# EAGLE library part ROTARY_SWITCH_6P (library 000_nl2)
6 Pole Rotary Switch This is a part for a 6 pole rotary switch described here <http://www.farnell.com/datasheets/1683351.pdf> and there is a variant for mounting behind the PCB
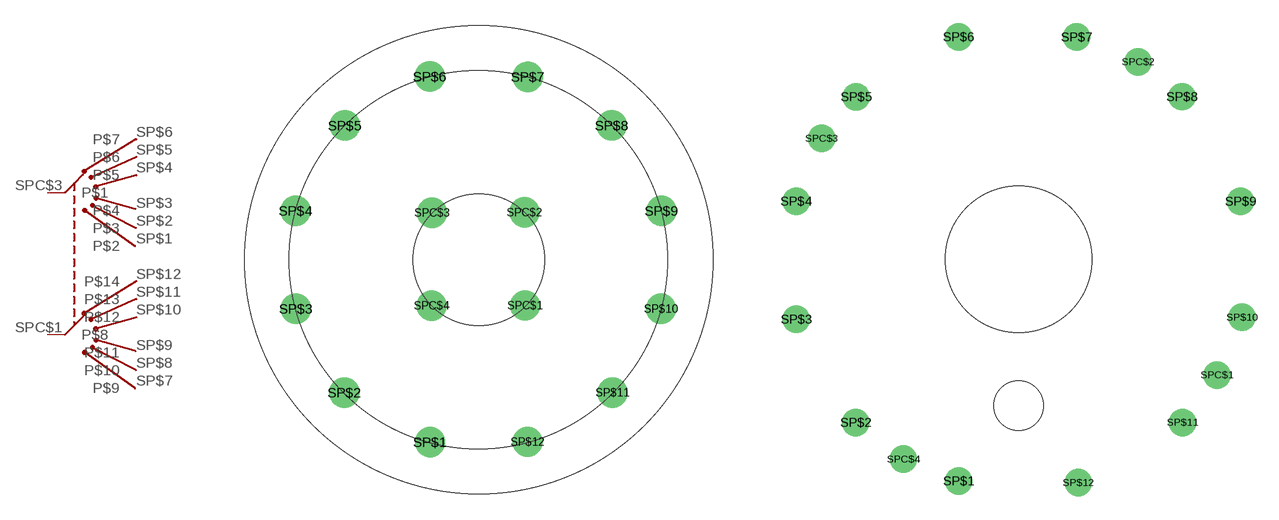
[diagram p29: symbol with the pads of 6POLEROTARYSWITCH; footprints 6POLEROTARYSWITCH, 6POLEROTARYSWITCH_BOTTOM]

Designator prefix SW

## ROTARY_SWITCH_6P_TOP  [6POLEROTARYSWITCH]
SP$1  P$2
SP$2  P$3
SP$3  P$4
SP$4  P$5
SP$5  P$6
SP$6  P$7
SP$7  P$9
SP$8  P$10
SP$9  P$11
SP$10  P$12
SP$11  P$13
SP$12  P$14
SPC$1  P$8
SPC$3  P$1

## ROTARY_SWITCH_6P_BOTTOM  [6POLEROTARYSWITCH_BOTTOM]
Pads as for 6POLEROTARYSWITCH

## Footprint 6POLEROTARYSWITCH (pad centres in mm)
drill 0.75 pad 1.778: SP$1 -2.863,-10.703; SP$2 -7.885,-7.796; SP$3 -10.729,-2.874; SP$4 -10.75,2.879; SP$5 -7.862,7.88; SP$6 -2.875,10.754; SP$7 2.875,10.741; SP$8 7.802,7.885; SP$9 10.722,2.875; SP$10 10.69,-2.882; SP$11 7.847,-7.796; SP$12 2.863,-10.69; SPC$1 2.715,-2.684; SPC$2 2.68,2.779; SPC$3 -2.739,2.76; SPC$4 -2.768,-2.691

## Footprint 6POLEROTARYSWITCH_BOTTOM (pad centres in mm)
drill 0.75 pad 1.778: SP$1 -3.879,-14.386; SP$2 -10.552,-10.59; SP$3 -14.412,-3.89; SP$4 -14.433,3.768; SP$5 -10.529,10.547; SP$6 -3.891,14.437; SP$7 3.764,14.424; SP$8 10.596,10.552; SP$9 14.405,3.764; SP$10 14.5,-3.771; SP$11 10.641,-10.59; SP$12 3.879,-14.5; SPC$1 12.875,-7.51; SPC$2 7.76,12.812; SPC$3 -12.772,7.84; SPC$4 -7.467,-12.978
hole 3.2 at 0,-9.5
hole 9.525 at 0,0